# EAGLE library part 2.2TFT (library 2.2TFT)
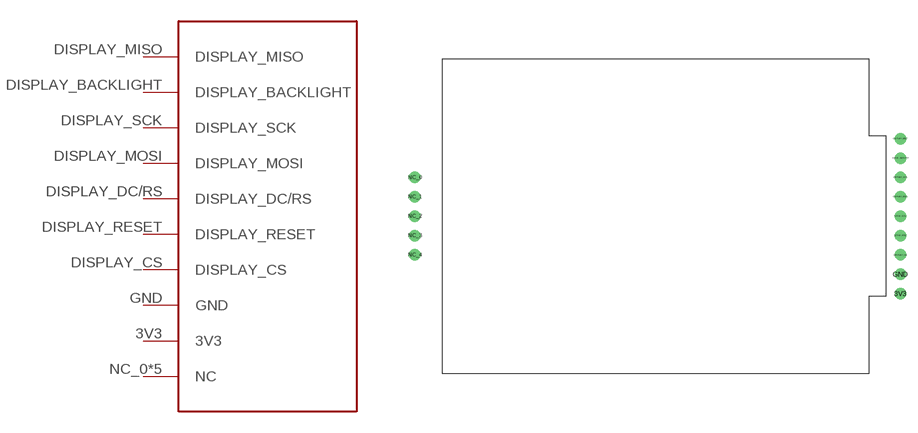
[diagram p0: symbol with the pads of 2.2TFT; footprint 2.2TFT]

Designator prefix -

## 2.2TFT  [2.2TFT]
3V3  3V3
DISPLAY_BACKLIGHT  DISPLAY_BACKLIGHT
DISPLAY_CS  DISPLAY_CS
DISPLAY_DC/RS  DISPLAY_DC/RS
DISPLAY_MISO  DISPLAY_MISO
DISPLAY_MOSI  DISPLAY_MOSI
DISPLAY_RESET  DISPLAY_RESET
DISPLAY_SCK  DISPLAY_SCK
GND  GND
NC_0  NC
NC_1  NC
NC_2  NC
NC_3  NC
NC_4  NC

## Footprint 2.2TFT (pad centres in mm)
drill 1: 3V3 32.08,-10.16; DISPLAY_BACKLIGHT 32.08,7.62; DISPLAY_CS 32.08,-5.08; DISPLAY_DC/RS 32.08,0; DISPLAY_MISO 32.08,10.16; DISPLAY_MOSI 32.08,2.54; DISPLAY_RESET 32.08,-2.54; DISPLAY_SCK 32.08,5.08; GND 32.08,-7.62; NC_0 -31.57,5.08; NC_1 -31.57,2.54; NC_2 -31.57,0; NC_3 -31.57,-2.54; NC_4 -31.57,-5.08